# EAGLE library part STM32F103VDT6 (library barthess)
MCU, 32BIT, CORTEXM3, 384KFLASH, 100LQFP Controller Family/Series:STM32 Core Size:32bit No. of I/O's:80 Program Memory Size:384 KB RAM Memory Size:64KB CPU Speed:72MHz Oscillator Type:External, Internal No. of Timers:8 Peripherals:ADC, DAC, DMA, PWM, Timer No. of PWM Channels:16 Digital IC Case Style:LQFP Supply Voltage Range:2V to 3.6V Operating Temperature Range:-40?°C to +85?°C No. of Pins:100 MSL:MSL 3 - 168 hours SVHC:No SVHC (20-Jun-2011) IC Generic Number:32F103VD Interface:CAN, I2C, SPI, USART, USB Termination Type:SMD
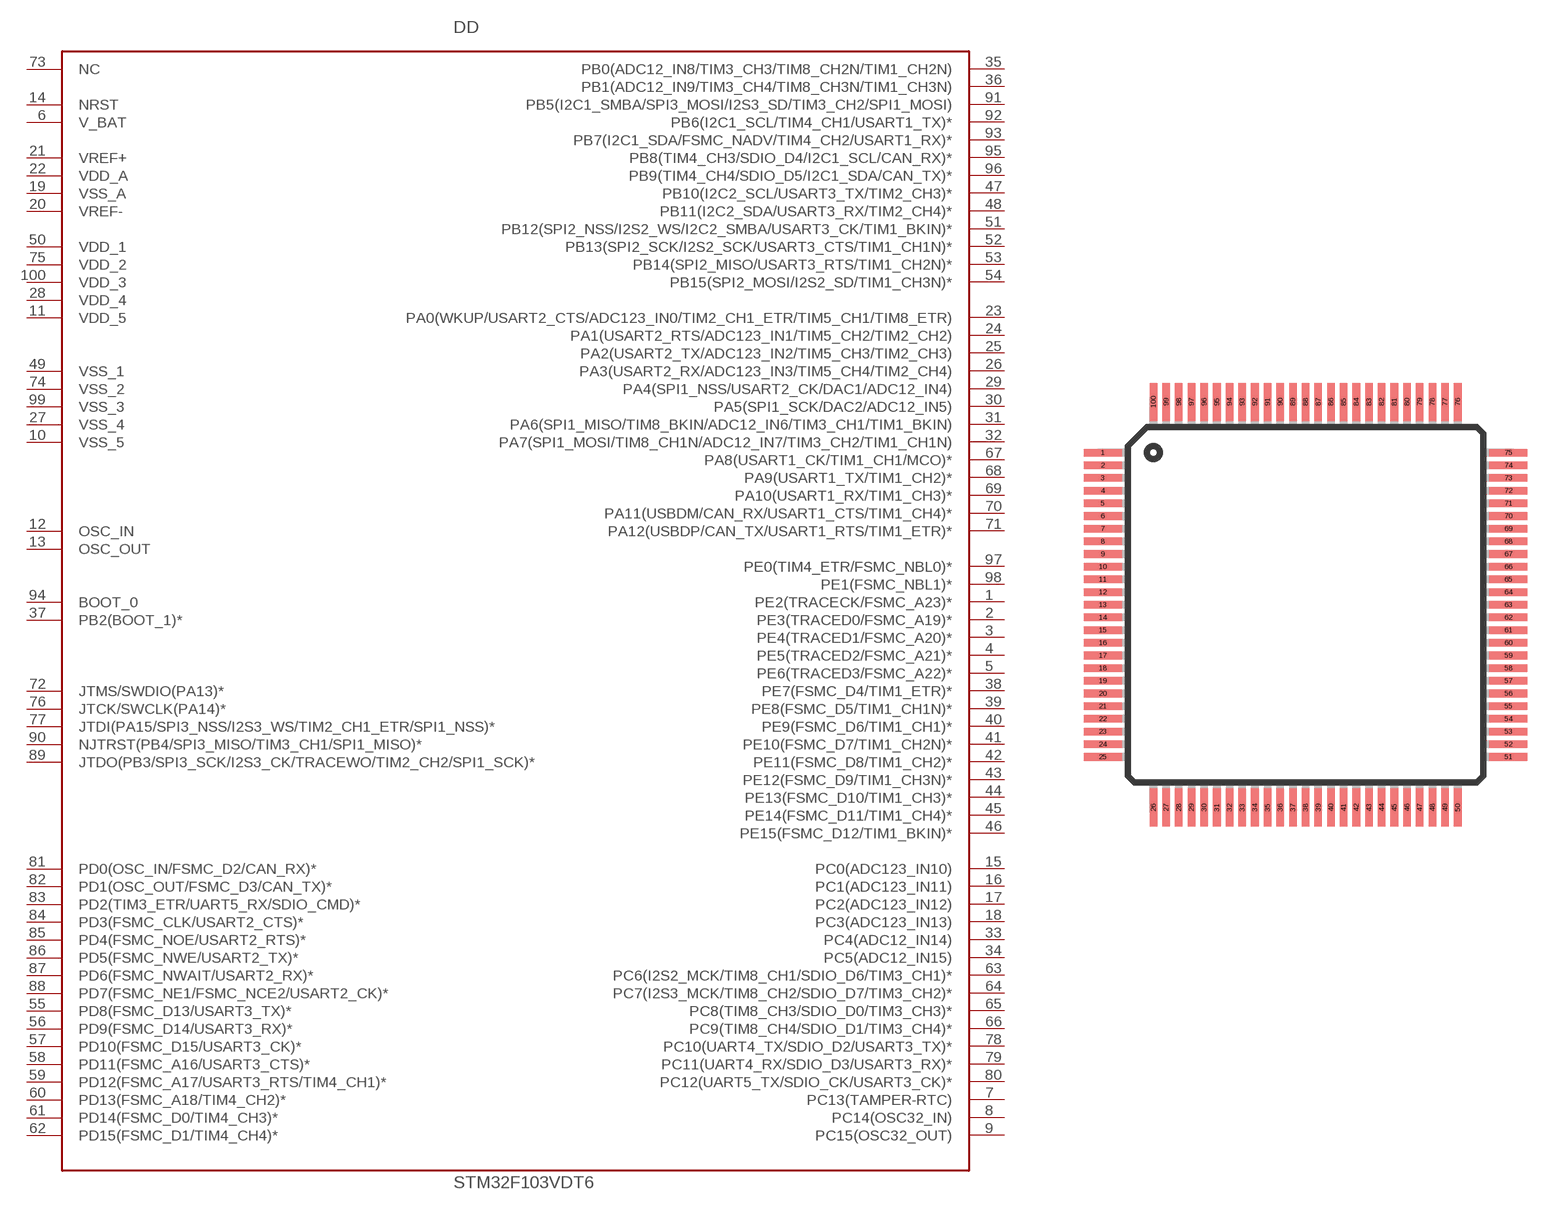
[diagram p2: symbol with the pads of TQFP100; footprint TQFP100]

Designator prefix DD

## STM32F103VDT6  [TQFP100]
1  PE2(TRACECK/FSMC_A23)*
2  PE3(TRACED0/FSMC_A19)*
3  PE4(TRACED1/FSMC_A20)*
4  PE5(TRACED2/FSMC_A21)*
5  PE6(TRACED3/FSMC_A22)*
6  V_BAT  pwr
7  PC13(TAMPER-RTC)
8  PC14(OSC32_IN)
9  PC15(OSC32_OUT)
10  VSS_5  pwr
11  VDD_5  pwr
12  OSC_IN  in
13  OSC_OUT  out
14  NRST
15  PC0(ADC123_IN10)
16  PC1(ADC123_IN11)
17  PC2(ADC123_IN12)
18  PC3(ADC123_IN13)
19  VSS_A  pwr
20  VREF-  pwr
21  VREF+  pwr
22  VDD_A  pwr
23  PA0(WKUP/USART2_CTS/ADC123_IN0/TIM2_CH1_ETR/TIM5_CH1/TIM8_ETR)
24  PA1(USART2_RTS/ADC123_IN1/TIM5_CH2/TIM2_CH2)
25  PA2(USART2_TX/ADC123_IN2/TIM5_CH3/TIM2_CH3)
26  PA3(USART2_RX/ADC123_IN3/TIM5_CH4/TIM2_CH4)
27  VSS_4  pwr
28  VDD_4  pwr
29  PA4(SPI1_NSS/USART2_CK/DAC1/ADC12_IN4)
30  PA5(SPI1_SCK/DAC2/ADC12_IN5)
31  PA6(SPI1_MISO/TIM8_BKIN/ADC12_IN6/TIM3_CH1/TIM1_BKIN)
32  PA7(SPI1_MOSI/TIM8_CH1N/ADC12_IN7/TIM3_CH2/TIM1_CH1N)
33  PC4(ADC12_IN14)
34  PC5(ADC12_IN15)
35  PB0(ADC12_IN8/TIM3_CH3/TIM8_CH2N/TIM1_CH2N)
36  PB1(ADC12_IN9/TIM3_CH4/TIM8_CH3N/TIM1_CH3N)
37  PB2(BOOT_1)*
38  PE7(FSMC_D4/TIM1_ETR)*
39  PE8(FSMC_D5/TIM1_CH1N)*
40  PE9(FSMC_D6/TIM1_CH1)*
41  PE10(FSMC_D7/TIM1_CH2N)*
42  PE11(FSMC_D8/TIM1_CH2)*
43  PE12(FSMC_D9/TIM1_CH3N)*
44  PE13(FSMC_D10/TIM1_CH3)*
45  PE14(FSMC_D11/TIM1_CH4)*
46  PE15(FSMC_D12/TIM1_BKIN)*
47  PB10(I2C2_SCL/USART3_TX/TIM2_CH3)*
48  PB11(I2C2_SDA/USART3_RX/TIM2_CH4)*
49  VSS_1  pwr
50  VDD_1  pwr
51  PB12(SPI2_NSS/I2S2_WS/I2C2_SMBA/USART3_CK/TIM1_BKIN)*
52  PB13(SPI2_SCK/I2S2_SCK/USART3_CTS/TIM1_CH1N)*
53  PB14(SPI2_MISO/USART3_RTS/TIM1_CH2N)*
54  PB15(SPI2_MOSI/I2S2_SD/TIM1_CH3N)*
55  PD8(FSMC_D13/USART3_TX)*
56  PD9(FSMC_D14/USART3_RX)*
57  PD10(FSMC_D15/USART3_CK)*
58  PD11(FSMC_A16/USART3_CTS)*
59  PD12(FSMC_A17/USART3_RTS/TIM4_CH1)*
60  PD13(FSMC_A18/TIM4_CH2)*
61  PD14(FSMC_D0/TIM4_CH3)*
62  PD15(FSMC_D1/TIM4_CH4)*
63  PC6(I2S2_MCK/TIM8_CH1/SDIO_D6/TIM3_CH1)*
64  PC7(I2S3_MCK/TIM8_CH2/SDIO_D7/TIM3_CH2)*
65  PC8(TIM8_CH3/SDIO_D0/TIM3_CH3)*
66  PC9(TIM8_CH4/SDIO_D1/TIM3_CH4)*
67  PA8(USART1_CK/TIM1_CH1/MCO)*
68  PA9(USART1_TX/TIM1_CH2)*
69  PA10(USART1_RX/TIM1_CH3)*
70  PA11(USBDM/CAN_RX/USART1_CTS/TIM1_CH4)*
71  PA12(USBDP/CAN_TX/USART1_RTS/TIM1_ETR)*
72  JTMS/SWDIO(PA13)*
73  NC
74  VSS_2  pwr
75  VDD_2  pwr
76  JTCK/SWCLK(PA14)*
77  JTDI(PA15/SPI3_NSS/I2S3_WS/TIM2_CH1_ETR/SPI1_NSS)*
78  PC10(UART4_TX/SDIO_D2/USART3_TX)*
79  PC11(UART4_RX/SDIO_D3/USART3_RX)*
80  PC12(UART5_TX/SDIO_CK/USART3_CK)*
81  PD0(OSC_IN/FSMC_D2/CAN_RX)*
82  PD1(OSC_OUT/FSMC_D3/CAN_TX)*
83  PD2(TIM3_ETR/UART5_RX/SDIO_CMD)*
84  PD3(FSMC_CLK/USART2_CTS)*
85  PD4(FSMC_NOE/USART2_RTS)*
86  PD5(FSMC_NWE/USART2_TX)*
87  PD6(FSMC_NWAIT/USART2_RX)*
88  PD7(FSMC_NE1/FSMC_NCE2/USART2_CK)*
89  JTDO(PB3/SPI3_SCK/I2S3_CK/TRACEWO/TIM2_CH2/SPI1_SCK)*
90  NJTRST(PB4/SPI3_MISO/TIM3_CH1/SPI1_MISO)*
91  PB5(I2C1_SMBA/SPI3_MOSI/I2S3_SD/TIM3_CH2/SPI1_MOSI)
92  PB6(I2C1_SCL/TIM4_CH1/USART1_TX)*
93  PB7(I2C1_SDA/FSMC_NADV/TIM4_CH2/USART1_RX)*
94  BOOT_0  in
95  PB8(TIM4_CH3/SDIO_D4/I2C1_SCL/CAN_RX)*
96  PB9(TIM4_CH4/SDIO_D5/I2C1_SDA/CAN_TX)*
97  PE0(TIM4_ETR/FSMC_NBL0)*
98  PE1(FSMC_NBL1)*
99  VSS_3  pwr
100  VDD_3  pwr

## Footprint TQFP100 (pad centres in mm)
smd 1.5 x 0.3: 1 -8,6; 2 -8,5.5; 3 -8,5; 4 -8,4.5; 5 -8,4; 6 -8,3.5; 7 -8,3; 8 -8,2.5; 9 -8,2; 10 -8,1.5; 11 -8,1; 12 -8,0.5; 13 -8,0; 14 -8,-0.5; 15 -8,-1; 16 -8,-1.5; 17 -8,-2; 18 -8,-2.5; 19 -8,-3; 20 -8,-3.5; 21 -8,-4; 22 -8,-4.5; 23 -8,-5; 24 -8,-5.5; 25 -8,-6; 51 8,-6; 52 8,-5.5; 53 8,-5; 54 8,-4.5; 55 8,-4; 56 8,-3.5; 57 8,-3; 58 8,-2.5; 59 8,-2; 60 8,-1.5; 61 8,-1; 62 8,-0.5; 63 8,0; 64 8,0.5; 65 8,1; 66 8,1.5; 67 8,2; 68 8,2.5; 69 8,3; 70 8,3.5; 71 8,4; 72 8,4.5; 73 8,5; 74 8,5.5; 75 8,6
smd 0.3 x 1.5: 26 -6,-8; 27 -5.5,-8; 28 -5,-8; 29 -4.5,-8; 30 -4,-8; 31 -3.5,-8; 32 -3,-8; 33 -2.5,-8; 34 -2,-8; 35 -1.5,-8; 36 -1,-8; 37 -0.5,-8; 38 0,-8; 39 0.5,-8; 40 1,-8; 41 1.5,-8; 42 2,-8; 43 2.5,-8; 44 3,-8; 45 3.5,-8; 46 4,-8; 47 4.5,-8; 48 5,-8; 49 5.5,-8; 50 6,-8; 76 6,8; 77 5.5,8; 78 5,8; 79 4.5,8; 80 4,8; 81 3.5,8; 82 3,8; 83 2.5,8; 84 2,8; 85 1.5,8; 86 1,8; 87 0.5,8; 88 0,8; 89 -0.5,8; 90 -1,8; 91 -1.5,8; 92 -2,8; 93 -2.5,8; 94 -3,8; 95 -3.5,8; 96 -4,8; 97 -4.5,8; 98 -5,8; 99 -5.5,8; 100 -6,8